# Altium footprint library XDFN-2.PcbLib: 1 footprints
Each footprint in its own frame and in the unit in brackets; x right, y up, seen from the top. Pads: shape width x height; smd on the part's side, far side on the other; paste and mask are expansions set on the pad; w line width, h text height; cw(c..) or ccw(c..) is an arc to the next point about the centre after c.
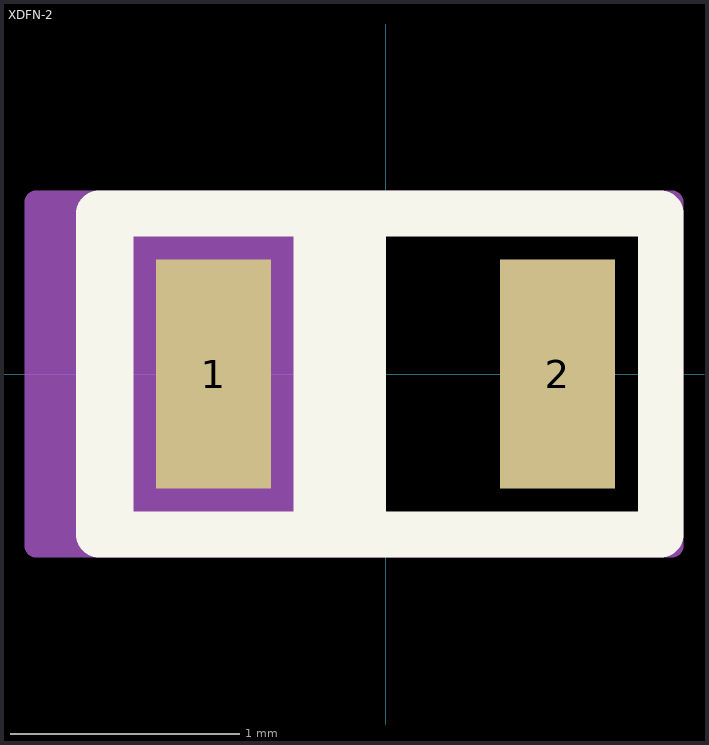
[diagram p0: the footprint, top view; thin cyan lines are the x and y axes]

## XDFN-2 [mm]
pads (2):
  rect 0.5x1 smd: 1(-0.75,0) 2(0.75,0)
Top Overlay:
  region: -1.175,0.725 -0.075,0.725 -0.075,0.6 -1.175,0.6
  region: -0.4,-0.7 -0.4,0.725 0,0.725 0,-0.7
  region: -1.25,-0.725 -1.25,0.8 -1.1,0.8 -1.1,-0.725
  region: -1.1,-0.6 0,-0.6 0,-0.725 -1.1,-0.725
  lines w0.2: -1.25,-0.7 1.2,-0.7 1.2,0.7 -1.25,0.7 -1.25,-0.7
Top Assembly:
  rectangle: -1.525,-0.8 0,0.775
  lines w0.1: -1.525,-0.75 1.25,-0.75 1.25,0.75 -1.525,0.75 -1.525,-0.75
  text "'.Designator'" at -0.35,-0.35 h0.7